# Altium schematic symbol library SCH - MCU - INFINEON XMC - INFINEON XMC1402Q048.SchLib: 1 symbol
Pins are listed as number, name and electrical type; pins without a type are passive.

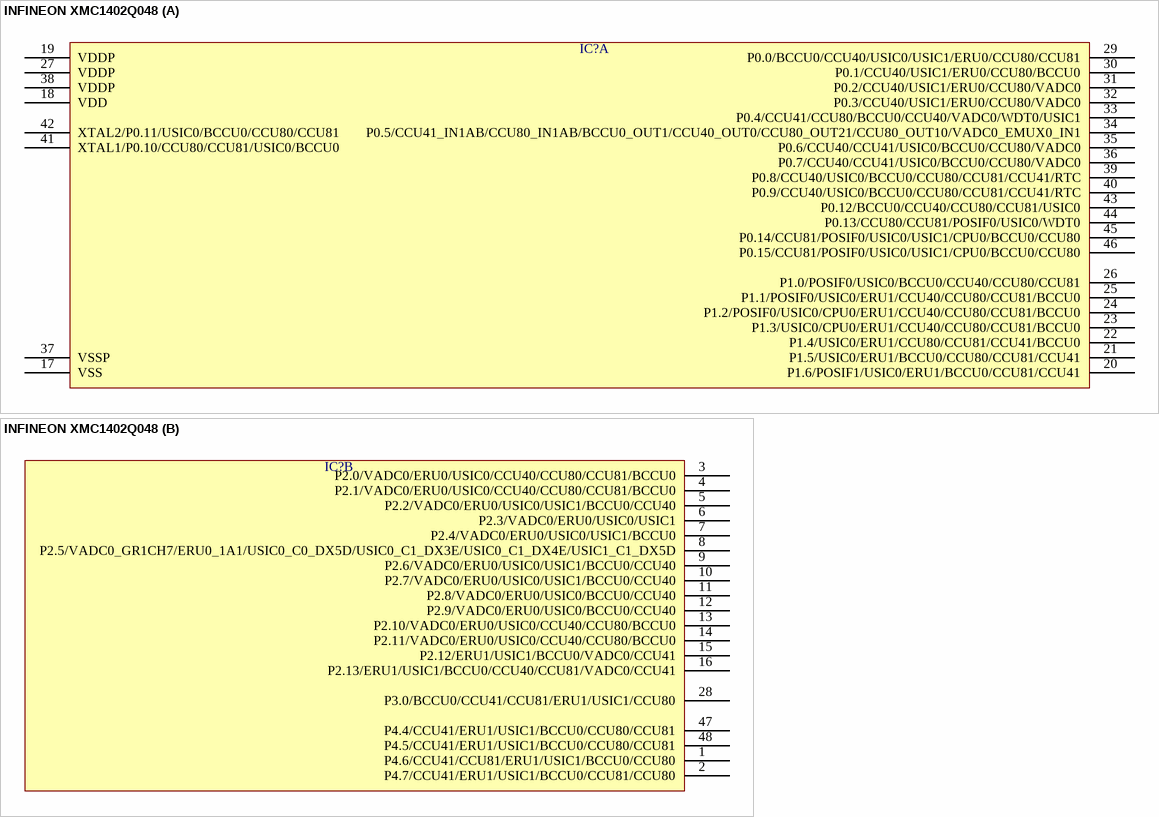
[diagram p0: symbol INFINEON XMC1402Q048]

## INFINEON XMC1402Q048
designator IC?  (value not drawn)
part A pins: 17 VSS, 18 VDD, 19 VDDP, 20 P1.6/POSIF1/USIC0/ERU1/BCCU0/CCU81/CCU41, 21 P1.5/USIC0/ERU1/BCCU0/CCU80/CCU81/CCU41, 22 P1.4/USIC0/ERU1/CCU80/CCU81/CCU41/BCCU0, 23 P1.3/USIC0/CPU0/ERU1/CCU40/CCU80/CCU81/BCCU0, 24 P1.2/POSIF0/USIC0/CPU0/ERU1/CCU40/CCU80/CCU81/BCCU0, 25 P1.1/POSIF0/USIC0/ERU1/CCU40/CCU80/CCU81/BCCU0, 26 P1.0/POSIF0/USIC0/BCCU0/CCU40/CCU80/CCU81, 27 VDDP, 29 P0.0/BCCU0/CCU40/USIC0/USIC1/ERU0/CCU80/CCU81, 30 P0.1/CCU40/USIC1/ERU0/CCU80/BCCU0, 31 P0.2/CCU40/USIC1/ERU0/CCU80/VADC0, 32 P0.3/CCU40/USIC1/ERU0/CCU80/VADC0, 33 P0.4/CCU41/CCU80/BCCU0/CCU40/VADC0/WDT0/USIC1, 34 P0.5/CCU41_IN1AB/CCU80_IN1AB/BCCU0_OUT1/CCU40_OUT0/CCU80_OUT21/CCU80_OUT10/VADC0_EMUX0_IN1, 35 P0.6/CCU40/CCU41/USIC0/BCCU0/CCU80/VADC0, 36 P0.7/CCU40/CCU41/USIC0/BCCU0/CCU80/VADC0, 37 VSSP, 38 VDDP, 39 P0.8/CCU40/USIC0/BCCU0/CCU80/CCU81/CCU41/RTC, 40 P0.9/CCU40/USIC0/BCCU0/CCU80/CCU81/CCU41/RTC, 41 XTAL1/P0.10/CCU80/CCU81/USIC0/BCCU0, 42 XTAL2/P0.11/USIC0/BCCU0/CCU80/CCU81, 43 P0.12/BCCU0/CCU40/CCU80/CCU81/USIC0, 44 P0.13/CCU80/CCU81/POSIF0/USIC0/WDT0, 45 P0.14/CCU81/POSIF0/USIC0/USIC1/CPU0/BCCU0/CCU80, 46 P0.15/CCU81/POSIF0/USIC0/USIC1/CPU0/BCCU0/CCU80
part B pins: 1 P4.6/CCU41/CCU81/ERU1/USIC1/BCCU0/CCU80, 2 P4.7/CCU41/ERU1/USIC1/BCCU0/CCU81/CCU80, 3 P2.0/VADC0/ERU0/USIC0/CCU40/CCU80/CCU81/BCCU0, 4 P2.1/VADC0/ERU0/USIC0/CCU40/CCU80/CCU81/BCCU0, 5 P2.2/VADC0/ERU0/USIC0/USIC1/BCCU0/CCU40, 6 P2.3/VADC0/ERU0/USIC0/USIC1, 7 P2.4/VADC0/ERU0/USIC0/USIC1/BCCU0, 8 P2.5/VADC0_GR1CH7/ERU0_1A1/USIC0_C0_DX5D/USIC0_C1_DX3E/USIC0_C1_DX4E/USIC1_C1_DX5D, 9 P2.6/VADC0/ERU0/USIC0/USIC1/BCCU0/CCU40, 10 P2.7/VADC0/ERU0/USIC0/USIC1/BCCU0/CCU40, 11 P2.8/VADC0/ERU0/USIC0/BCCU0/CCU40, 12 P2.9/VADC0/ERU0/USIC0/BCCU0/CCU40, 13 P2.10/VADC0/ERU0/USIC0/CCU40/CCU80/BCCU0, 14 P2.11/VADC0/ERU0/USIC0/CCU40/CCU80/BCCU0, 15 P2.12/ERU1/USIC1/BCCU0/VADC0/CCU41, 16 P2.13/ERU1/USIC1/BCCU0/CCU40/CCU81/VADC0/CCU41, 28 P3.0/BCCU0/CCU41/CCU81/ERU1/USIC1/CCU80, 47 P4.4/CCU41/ERU1/USIC1/BCCU0/CCU80/CCU81, 48 P4.5/CCU41/ERU1/USIC1/BCCU0/CCU80/CCU81